# Altium schematic symbol library Capacitors.SchLib: 2 symbols
Pins are listed as number, name and electrical type; pins without a type are passive.

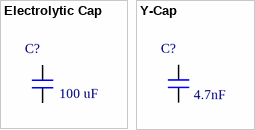
[diagram p0: symbols Electrolytic Cap to Y-Cap]

## Electrolytic Cap
designator C?  value 100 uF  (hidden comment: Electrolytic Cap)
footprint Lead Space 2.5mm, Lead Diam .5mm
footprint Lead Space 3.5mm, Lead Diam .6mm
footprint Lead Space 3.5mm, Lead Diam .8mm
pins: 1, 2

## Y-Cap
designator C?  value 4.7nF  (hidden comment: Y-Cap)
Rated Voltage: 250V
footprint Y-Cap, 4.7nF (Lead Space 7.5mm, Lead Diam .55mm)
pins: 1, 2